# Altium footprint library buton.PcbLib: 1 footprints
Each footprint in its own frame and in the unit in brackets; x right, y up, seen from the top. Pads: shape width x height; smd on the part's side, far side on the other; paste and mask are expansions set on the pad; w line width, h text height; cw(c..) or ccw(c..) is an arc to the next point about the centre after c.
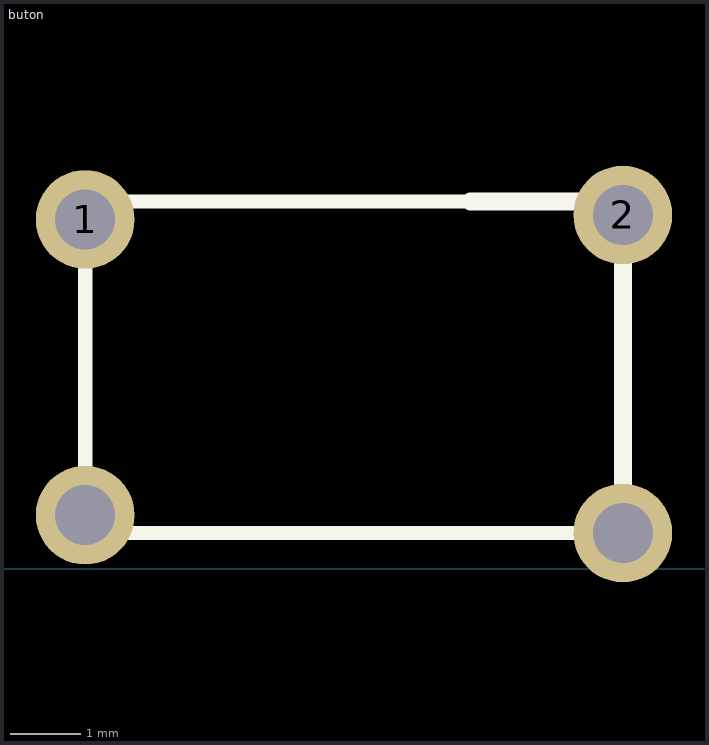
[diagram p0: the footprint, top view; thin cyan lines are the x and y axes]

## buton [mm]
pads (4):
  round 1.4 hole 0.85: 1(7.874,4.953) 2(15.494,5.016) ""(7.874,0.762) ""(15.494,0.508)
Top Overlay:
  lines w0.2: 13.335,5.207 7.874,5.207 7.874,0.508 15.494,0.508
  lines w0.254: 13.335,5.207 15.494,5.207 15.494,4.826 15.494,0.508
3D body "Tactal Switch - SMD (6mmx 6mmx 4.3mm) - Marked.stp": height 4.3, standoff 0, extent 7.493,-0.191 16.51,5.842